# Altium schematic symbol library LSM9DS1.SCHLIB: 1 symbol
Pins are listed as number, name and electrical type; pins without a type are passive.

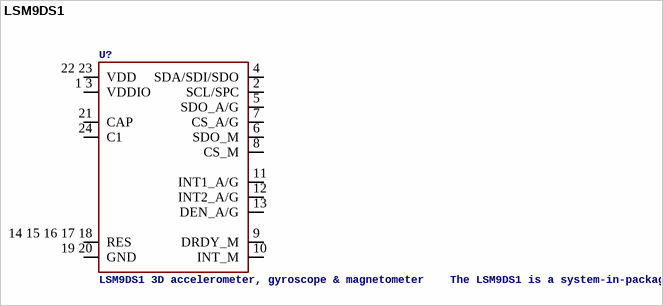
[diagram p0: symbol LSM9DS1]

## LSM9DS1
designator U?, comment LSM9DS1 3D accelerometer, gyroscope & magnetometer    The LSM9DS1 is a system-in-package featuring a 3D digital linear acceleration sensor, a 3D digital angular rate sensor, and a 3D digital magnetic sensor.   The LSM9DS1 has a linear acceleration full scale of Â±2g/Â±4g/Â±8/Â±16 g, a magnetic field full scale of Â±4/Â±8/Â±12/Â±16 gauss and an angular rate of Â±245/Â±500/Â±2000 dps.   The LSM9DS1 includes an I2 C serial bus interface supporting standard and fast mode (100 kHz and 400 kHz) and an SPI serial standard interface.   Magnetic, accelerometer and gyroscope sensing can be enabled or set in power-down mode separately for smart power management.   The LSM9DS1 is available in a plastic land grid array package (LGA) and it is guaranteed to operate over an extended temperature range from -40 Â°C to +85 Â°C.
PROD_ID: IC-12536
footprint LGA24-8X4
pins: 1 3 VDDIO, 2 SCL/SPC, 4 SDA/SDI/SDO, 5 SDO_A/G, 6 SDO_M, 7 CS_A/G, 8 CS_M, 9 DRDY_M, 10 INT_M, 11 INT1_A/G, 12 INT2_A/G, 13 DEN_A/G, 14 15 16 17 18 RES, 19 20 GND, 21 CAP, 22 23 VDD, 24 C1